# EAGLE library part WTV020SD (library SparkFun-DigitalIC)
SD audio playback IC Can play back .wav or .ad4 files from an SD card SPI control or digital input trigger control available in SSOP-20 or DIP-20
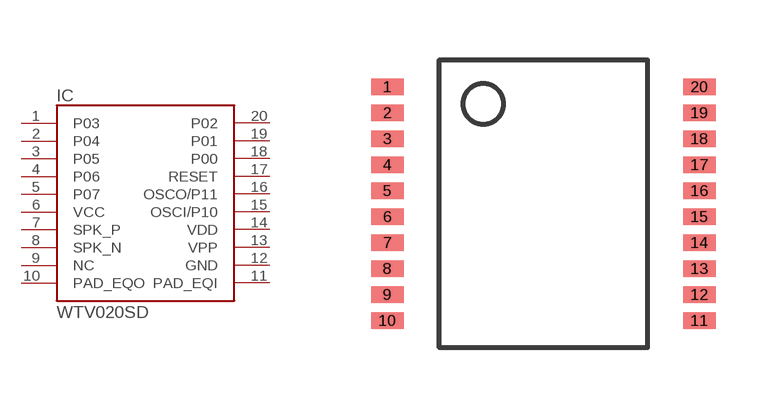
[diagram p138: symbol with the pads of SSOP_20; footprint SSOP_20]

Designator prefix IC

## WTV020SD (PROD_#: NA; SKU: NA; SPARKLE_ID: 6000; VALUE: WTV020SD-20S)  [SSOP_20]
1  P03
2  P04
3  P05
4  P06
5  P07
6  VCC
7  SPK_P
8  SPK_N
9  NC
10  PAD_EQO
11  PAD_EQI
12  GND
13  VPP
14  VDD
15  OSCI/P10
16  OSCO/P11
17  RESET
18  P00
19  P01
20  P02

## Footprint SSOP_20 (pad centres in mm)
20-pin .65mm pitch/5.2mm body SMT
smd 0.813 x 0.406: 1 -3.9,2.925; 2 -3.9,2.275; 3 -3.9,1.625; 4 -3.9,0.975; 5 -3.9,0.325; 6 -3.9,-0.325; 7 -3.9,-0.975; 8 -3.9,-1.625; 9 -3.9,-2.275; 10 -3.9,-2.925; 11 3.9,-2.925; 12 3.9,-2.275; 13 3.9,-1.625; 14 3.9,-0.975; 15 3.9,-0.325; 16 3.9,0.325; 17 3.9,0.975; 18 3.9,1.625; 19 3.9,2.275; 20 3.9,2.925